# Altium schematic symbol library SamacSys.SchLib: 234 symbols (part 2 of 3)
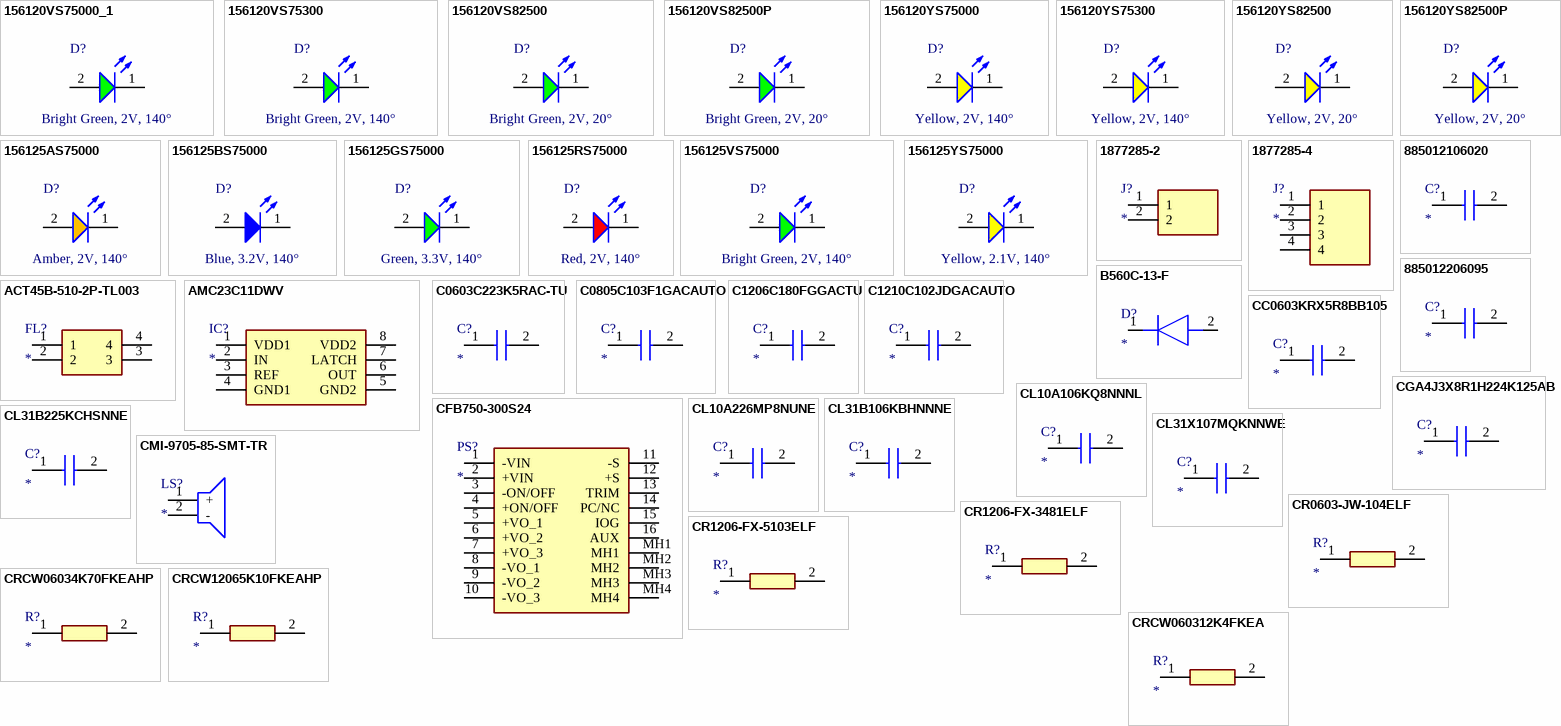
[diagram p6: symbols 156120VS75000_1 to CRCW060312K4FKEA]

## CL31X107MQKNNWE
designator C?
Capacitor; Manufacturer_Name: SAMSUNG; Manufacturer_Part_Number: CL31X107MQKNNWE; Datasheet Link: https://www.digikey.sg/en/products/detail/samsung-electro-mechanics/CL31X107MQKNNWE/25854287?srsltid=AfmBOoqYZ52GRQ9Xlh8bi0lGOe-KtDJ1wz9-WyaigKcCVSEueXc8l4on; Height: 1.9mm; Mouser Part Number: 187-CL31X107MQKNNWE; Mouser Price/Stock: https://www.mouser.co.uk/ProductDetail/Samsung-Electro-Mechanics/CL31X107MQKNNWE?qs=Jm2GQyTW%2FbjTv%252BH%2F%252BndEuA%3D%3D
footprint CAPC3216X190N
pins: 1, 2

## CMI-9705-85-SMT-TR
designator LS?
Loudspeaker or Buzzer; Manufacturer_Name: Same Sky; Manufacturer_Part_Number: CMI-9705-85-SMT-TR; Datasheet Link: https://www.sameskydevices.com/product/resource/CMI-9705-85-SMT-TR.pdf; Height: 5.5mm; Mouser Part Number: 490-CMI-9705-85SMTTR; Mouser Price/Stock: https://www.mouser.co.uk/ProductDetail/CUI-Devices/CMI-9705-85-SMT-TR?qs=P1JMDcb91o4Wun0lW9vptg%3D%3D; Arrow Part Number: CMI-9705-85-SMT-TR; Arrow Price/Stock: https://www.arrow.com/en/products/cmi-9705-85-smt-tr/cui-devices?region=nac
footprint CMI970585SMTTR
pins: 1 +, 2 -

## CR0603-JW-104ELF
designator R?
Resistor; Manufacturer_Name: Bourns; Manufacturer_Part_Number: CR0603-JW-104ELF; Datasheet Link: https://www.bourns.com/pdfs/chpreztr.pdf; Height: 0.55mm; Mouser Part Number: 652-CR0603-JW-104ELF; Mouser Price/Stock: https://www.mouser.co.uk/ProductDetail/Bourns/CR0603-JW-104ELF?qs=wOX%252BDVkMoZSK2gq9cFrtRg%3D%3D; Arrow Part Number: CR0603-JW-104ELF; Arrow Price/Stock: https://www.arrow.com/en/products/cr0603-jw-104elf/bourns?region=nac
footprint RESC1608X55N
pins: 1, 2

## CR1206-FX-3481ELF
designator R?
Resistor; Manufacturer_Name: Bourns; Manufacturer_Part_Number: CR1206-FX-3481ELF; Datasheet Link: https://nl.mouser.com/datasheet/2/54/cr-1858361.pdf; Height: 0.75mm; Mouser Part Number: 652-CR1206FX-3481ELF; Mouser Price/Stock: https://www.mouser.co.uk/ProductDetail/Bourns/CR1206-FX-3481ELF?qs=raSpJxvwqHE9%252BFSb7FiTAQ%3D%3D
footprint RESC3216X75N
pins: 1, 2

## CR1206-FX-5103ELF
designator R?
Resistor; Manufacturer_Name: Bourns; Manufacturer_Part_Number: CR1206-FX-5103ELF; Datasheet Link: http://componentsearchengine.com/Datasheets/1/CR1206-FX-5103ELF.pdf; Height: 0.75mm; Mouser Part Number: 652-CR1206FX-5103ELF; Mouser Price/Stock: https://www.mouser.co.uk/ProductDetail/Bourns/CR1206-FX-5103ELF?qs=O4EQhShwvrpqwloF6Ll%2FVg%3D%3D; Arrow Part Number: CR1206-FX-5103ELF; Arrow Price/Stock: https://www.arrow.com/en/products/cr1206-fx-5103elf/bourns?region=europe
footprint RESC3216X75N
pins: 1, 2

## CRCW06034K70FKEAHP
designator R?
Resistor; Manufacturer_Name: Vishay; Manufacturer_Part_Number: CRCW06034K70FKEAHP; Datasheet Link: http://www.farnell.com/datasheets/1885357.pdf; Height: 0.5mm; Mouser Part Number: 71-CRCW06034K70FKEAH; Mouser Price/Stock: https://www.mouser.co.uk/ProductDetail/Vishay-Dale/CRCW06034K70FKEAHP?qs=k2%2FDWSARqgF9tclCHvhGkQ%3D%3D; Arrow Part Number: CRCW06034K70FKEAHP; Arrow Price/Stock: https://www.arrow.com/en/products/crcw06034k70fkeahp/vishay?utm_currency=USD&region=nac
footprint RESC1608X50N
pins: 1, 2

## CRCW12065K10FKEAHP
designator R?
Resistor; Manufacturer_Name: Vishay; Manufacturer_Part_Number: CRCW12065K10FKEAHP; Datasheet Link: http://componentsearchengine.com/Datasheets/1/CRCW12065K10FKEAHP.pdf; Height: 0.65mm; Mouser Part Number: 71-CRCW12065K10FKEAH; Mouser Price/Stock: https://www.mouser.co.uk/ProductDetail/Vishay-Dale/CRCW12065K10FKEAHP?qs=YmE2lSBYOPkBMGQxuoTowQ%3D%3D; Arrow Part Number: CRCW12065K10FKEAHP; Arrow Price/Stock: https://www.arrow.com/en/products/crcw12065k10fkeahp/vishay?region=nac
footprint RESC3116X65N
pins: 1, 2

## CRCW060312K4FKEA
designator R?
Resistor; Manufacturer_Name: Vishay; Manufacturer_Part_Number: CRCW060312K4FKEA; Datasheet Link: http://www.vishay.com/docs/20035/dcrcwe3.pdf; Height: 0.5mm; Mouser Part Number: 71-CRCW0603-12.4K-E3; Mouser Price/Stock: https://www.mouser.co.uk/ProductDetail/Vishay-Dale/CRCW060312K4FKEA?qs=8tsW7z%2Fc78of4VB3wUPkkg%3D%3D; Arrow Part Number: CRCW060312K4FKEA; Arrow Price/Stock: https://www.arrow.com/en/products/crcw060312k4fkea/vishay?utm_currency=USD&region=nac
footprint RESC1608X50N
pins: 1, 2

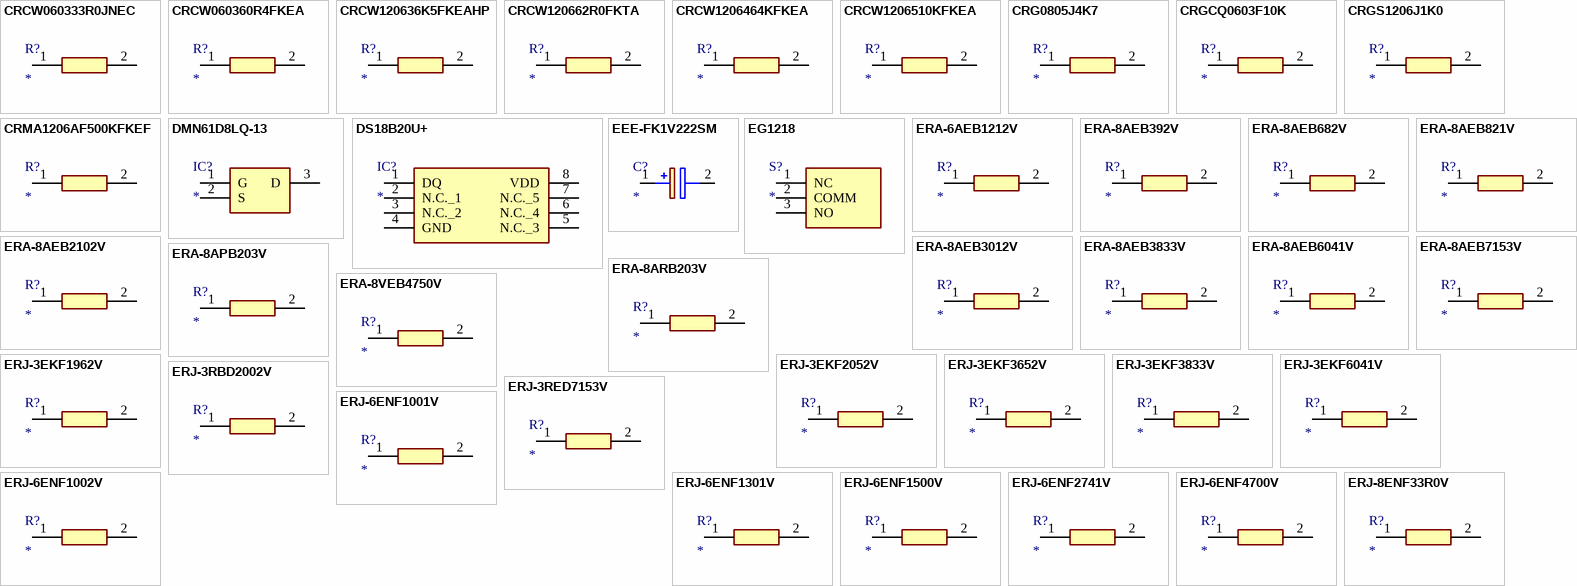
[diagram p2: symbols CRCW060333R0JNEC to ERJ-8ENF33R0V]

## CRCW060333R0JNEC
designator R?
Resistor; Manufacturer_Name: Vishay; Manufacturer_Part_Number: CRCW060333R0JNEC; Datasheet Link: http://www.vishay.com/docs/20035/dcrcwe3.pdf; Height: 0.5mm; Mouser Part Number: 71-CRCW060333R0JNEC; Mouser Price/Stock: https://www.mouser.co.uk/ProductDetail/Vishay-Dale/CRCW060333R0JNEC?qs=ZO1m%252BzWAUg2kwAG1IfiiMA%3D%3D; Arrow Part Number: CRCW060333R0JNEC; Arrow Price/Stock: https://www.arrow.com/en/products/crcw060333r0jnec/vishay?region=nac
footprint RESC1608X50N
pins: 1, 2

## CRCW060360R4FKEA
designator R?
Resistor; Manufacturer_Name: Vishay; Manufacturer_Part_Number: CRCW060360R4FKEA; Datasheet Link: http://www.vishay.com/docs/20035/dcrcwe3.pdf; Height: 0.5mm; Mouser Part Number: 71-CRCW0603-60.4-E3; Mouser Price/Stock: https://www.mouser.co.uk/ProductDetail/Vishay-Dale/CRCW060360R4FKEA?qs=6fyMJ9%2FiJ9KMVX8MBWVfDg%3D%3D; Arrow Part Number: CRCW060360R4FKEA; Arrow Price/Stock: https://www.arrow.com/en/products/crcw060360r4fkea/vishay
footprint RESC1608X50N
pins: 1, 2

## CRCW120636K5FKEAHP
designator R?
Resistor; Manufacturer_Name: Vishay; Manufacturer_Part_Number: CRCW120636K5FKEAHP; Height: 0.65mm; Mouser Part Number: 71-CRCW120636K5FKEAH; Mouser Price/Stock: https://www.mouser.co.uk/ProductDetail/Vishay-Dale/CRCW120636K5FKEAHP?qs=VAB4DzKv5wUp%2FbasZHay7w%3D%3D; Arrow Part Number: CRCW120636K5FKEAHP; Arrow Price/Stock: https://www.arrow.com/en/products/crcw120636k5fkeahp/vishay?region=nac
footprint RESC3116X65N
pins: 1, 2

## CRCW120662R0FKTA
designator R?
Resistor; Manufacturer_Name: Vishay; Manufacturer_Part_Number: CRCW120662R0FKTA; Height: 0.6mm; Mouser Part Number: 71-CRCW1206-62; Mouser Price/Stock: https://www.mouser.co.uk/ProductDetail/Vishay-Dale/CRCW120662R0FKTA?qs=ZNjI1vpoWDOW7%2FSNU3Zcgg%3D%3D
footprint RESC3216X60N
pins: 1, 2

## CRCW1206464KFKEA
designator R?
Resistor; Manufacturer_Name: Vishay; Manufacturer_Part_Number: CRCW1206464KFKEA; Datasheet Link: http://componentsearchengine.com/Datasheets/2/CRCW1206464KFKEA.pdf; Height: 0.6mm; Mouser Part Number: 71-CRCW1206-464K-E3; Mouser Price/Stock: https://www.mouser.co.uk/ProductDetail/Vishay-Dale/CRCW1206464KFKEA?qs=9sFvXT%252Bien0sktzQDV2mCw%3D%3D
footprint RESC3216X60N
pins: 1, 2

## CRCW1206510KFKEA
designator R?
Resistor; Manufacturer_Name: Vishay; Manufacturer_Part_Number: CRCW1206510KFKEA; Datasheet Link: http://www.vishay.com/docs/20035/dcrcwe3.pdf; Height: 0.6mm; Mouser Part Number: 71-CRCW1206-510K-E3; Mouser Price/Stock: https://www.mouser.co.uk/ProductDetail/Vishay-Dale/CRCW1206510KFKEA?qs=%2FAtLfjUBFoUdDh4J6snHXg%3D%3D
footprint RESC3216X60N
pins: 1, 2

## CRG0805J4K7
designator R?
Resistor; Manufacturer_Name: TE Connectivity; Manufacturer_Part_Number: CRG0805J4K7; Datasheet Link: https://www.te.com/commerce/DocumentDelivery/DDEController?Action=srchrtrv&DocNm=1773204&DocType=Data%20Sheet&DocLang=English&PartCntxt=1623378-1&DocFormat=pdf; Height: 0.65mm; Mouser Part Number: 279-CRG0805J4K7; Mouser Price/Stock: https://www.mouser.co.uk/ProductDetail/TE-Connectivity-Holsworthy/CRG0805J4K7?qs=8G8kQhBkhGgMmCk94lgNPw%3D%3D; Arrow Part Number: CRG0805J4K7; Arrow Price/Stock: https://www.arrow.com/en/products/crg0805j4k7/te-connectivity
footprint RESC2012X65N
pins: 1, 2

## CRGCQ0603F10K
designator R?
Resistor; Manufacturer_Name: TE Connectivity; Manufacturer_Part_Number: CRGCQ0603F10K; Datasheet Link: https://www.te.com/commerce/DocumentDelivery/DDEController?Action=showdoc&DocId=Data+Sheet%7F1773204-3%7F1%7Fpdf%7FEnglish%7FENG_DS_1773204-3_1.pdf%7F5-2176339-2; Height: 0.55mm; Mouser Part Number: 279-CRGCQ0603F10K; Mouser Price/Stock: https://www.mouser.co.uk/ProductDetail/TE-Connectivity-Holsworthy/CRGCQ0603F10K?qs=wUXugUrL1qxhM765MzQWJg%3D%3D; Arrow Part Number: CRGCQ0603F10K; Arrow Price/Stock: https://www.arrow.com/en/products/crgcq0603f10k/te-connectivity?region=nac
footprint RESC1608X55N
pins: 1, 2

## CRGS1206J1K0
designator R?
Resistor; Manufacturer_Name: TE Connectivity; Manufacturer_Part_Number: CRGS1206J1K0; Datasheet Link: https://www.te.com/commerce/DocumentDelivery/DDEController?Action=srchrtrv&DocNm=9-1773463-8&DocType=Data%20Sheet&DocLang=English&PartCntxt=3-2176245-7&DocFormat=pdf; Height: 0.65mm; Mouser Part Number: 279-CRGS1206J1K0; Mouser Price/Stock: https://www.mouser.com/Search/Refine.aspx?Keyword=279-CRGS1206J1K0
footprint RESC3116X65N
pins: 1, 2

## CRMA1206AF500KFKEF
designator R?
Resistor; Manufacturer_Name: Vishay; Manufacturer_Part_Number: CRMA1206AF500KFKEF; Datasheet Link: https://www.vishay.com/docs/68043/crma.pdf; Height: 0.74mm; Mouser Part Number: 71-CRMA1206AF500KFKF; Mouser Price/Stock: https://www.mouser.co.uk/ProductDetail/Vishay-Techno/CRMA1206AF500KFKEF?qs=1mbolxNpo8cDdncTsqghaQ%3D%3D; Arrow Part Number: CRMA1206AF500KFKEF; Arrow Price/Stock: https://www.arrow.com/en/products/crma1206af500kfkef/vishay?region=nac
footprint RESC3216X74N
pins: 1, 2

## DMN61D8LQ-13
designator IC?
Integrated Circuit; Manufacturer_Name: Diodes Incorporated; Manufacturer_Part_Number: DMN61D8LQ-13; Datasheet Link: https://www.diodes.com//assets/Datasheets/DMN61D8LQ.pdf; Height: 1.1mm; Mouser Part Number: 621-DMN61D8LQ-13; Mouser Price/Stock: https://www.mouser.co.uk/ProductDetail/Diodes-Incorporated/DMN61D8LQ-13?qs=DBvH5xl4UymJgoulTjiNCg%3D%3D; Arrow Part Number: DMN61D8LQ-13; Arrow Price/Stock: https://www.arrow.com/en/products/dmn61d8lq-13/diodes-incorporated?utm_currency=USD&region=nac
footprint SOT96P240X110-3N
pins: 1 G, 2 S, 3 D

## DS18B20U+
designator IC?
Integrated Circuit; Manufacturer_Name: Analog Devices; Manufacturer_Part_Number: DS18B20U+; Datasheet Link: https://datasheets.maximintegrated.com/en/ds/DS18B20.pdf; Height: 1.1mm; Mouser Part Number: 700-DS18B20U; Mouser Price/Stock: https://www.mouser.co.uk/ProductDetail/Analog-Devices-Maxim-Integrated/DS18B20U%2b?qs=7H2Jq%252ByxpJLxAEcPXZtrFQ%3D%3D; Arrow Part Number: DS18B20U+; Arrow Price/Stock: https://www.arrow.com/en/products/ds18b20u/analog-devices?utm_currency=USD&region=nac
footprint SOP65P490X110-8N
pins: 1 DQ, 2 N.C._1, 3 N.C._2, 4 GND, 5 N.C._3, 6 N.C._4, 7 N.C._5, 8 VDD

## EEE-FK1V222SM
designator C?
Capacitor Polarised; Manufacturer_Name: Panasonic; Manufacturer_Part_Number: EEE-FK1V222SM; Datasheet Link: http://industrial.panasonic.com/cdbs/www-data/pdf/RDE0000/ABA0000C1247.pdf; Height: 17mm; Mouser Part Number: 667-EEE-FK1V222SM; Mouser Price/Stock: https://www.mouser.co.uk/ProductDetail/Panasonic/EEE-FK1V222SM?qs=BZBei1rCqCDR%252Bq3bCD9AAQ%3D%3D; Arrow Part Number: EEE-FK1V222SM; Arrow Price/Stock: https://www.arrow.com/en/products/eee-fk1v222sm/panasonic?region=nac
footprint EEEFK0J103SM
pins: 1 +, 2 -

## EG1218
designator S?
Switch; Manufacturer_Name: E-Switch; Manufacturer_Part_Number: EG1218; Datasheet Link: https://configured-product-images.s3.amazonaws.com/2D/specs/EG1218.pdf; Height: 7.4mm; Mouser Part Number: 612-EG1218; Mouser Price/Stock: https://www.mouser.co.uk/ProductDetail/E-Switch/EG1218?qs=xDsBkp9LkocT0c8K%252B5e%2FgA%3D%3D
footprint EG1218
pins: 1 NC, 2 COMM, 3 NO

## ERA-6AEB1212V
designator R?
Resistor; Manufacturer_Name: Panasonic; Manufacturer_Part_Number: ERA-6AEB1212V; Datasheet Link: https://industrial.panasonic.com/cdbs/www-data/pdf/RDM0000/AOA0000C307.pdf; Height: 0.6mm; Mouser Part Number: 667-ERA-6AEB1212V; Mouser Price/Stock: https://www.mouser.co.uk/ProductDetail/Panasonic/ERA-6AEB1212V?qs=DyUWGjl%252BcVvcV08sco2Dng%3D%3D
footprint ERA6AEB101V
pins: 1, 2

## ERA-8AEB392V
designator R?
Resistor; Manufacturer_Name: Panasonic; Manufacturer_Part_Number: ERA-8AEB392V; Datasheet Link: https://industrial.panasonic.com/cdbs/www-data/pdf/RDM0000/AOA0000C307.pdf; Height: 0.7mm; Mouser Part Number: 667-ERA-8AEB392V; Mouser Price/Stock: https://www.mouser.com/Search/Refine.aspx?Keyword=667-ERA-8AEB392V
footprint RESC3216X70N
pins: 1, 2

## ERA-8AEB682V
designator R?
Resistor; Manufacturer_Name: Panasonic; Manufacturer_Part_Number: ERA-8AEB682V; Datasheet Link: https://industrial.panasonic.com/cdbs/www-data/pdf/RDM0000/AOA0000C307.pdf; Height: 0.7mm; Mouser Part Number: 667-ERA-8AEB682V; Mouser Price/Stock: https://www.mouser.com/Search/Refine.aspx?Keyword=667-ERA-8AEB682V
footprint RESC3216X70N
pins: 1, 2

## ERA-8AEB821V
designator R?
Resistor; Manufacturer_Name: Panasonic; Manufacturer_Part_Number: ERA-8AEB821V; Datasheet Link: https://industrial.panasonic.com/cdbs/www-data/pdf/RDM0000/AOA0000C307.pdf; Height: 0.7mm; Mouser Part Number: 667-ERA-8AEB821V; Mouser Price/Stock: https://www.mouser.co.uk/ProductDetail/Panasonic/ERA-8AEB821V?qs=Ojoo2rCVP9QZBqbRJJi6EA%3D%3D; Arrow Part Number: ERA-8AEB821V; Arrow Price/Stock: https://www.arrow.com/en/products/era-8aeb821v/panasonic?region=nac
footprint RESC3216X70N
pins: 1, 2

## ERA-8AEB2102V
designator R?
Resistor; Manufacturer_Name: Panasonic; Manufacturer_Part_Number: ERA-8AEB2102V; Datasheet Link: https://industrial.panasonic.com/cdbs/www-data/pdf/RDM0000/AOA0000C307.pdf; Height: 0.7mm; Mouser Part Number: 667-ERA-8AEB2102V; Mouser Price/Stock: https://www.mouser.co.uk/ProductDetail/Panasonic/ERA-8AEB2102V?qs=MNPzkKEzRtSGOL2oFTGtSQ%3D%3D
footprint RESC3216X70N
pins: 1, 2

## ERA-8AEB3012V
designator R?
Resistor; Manufacturer_Name: Panasonic; Manufacturer_Part_Number: ERA-8AEB3012V; Datasheet Link: https://industrial.panasonic.com/cdbs/www-data/pdf/RDM0000/AOA0000C307.pdf; Height: 0.7mm; Mouser Part Number: 667-ERA-8AEB3012V; Mouser Price/Stock: https://www.mouser.co.uk/ProductDetail/Panasonic/ERA-8AEB3012V?qs=MNPzkKEzRtRrrEBjINaeEw%3D%3D; Arrow Part Number: ERA-8AEB3012V; Arrow Price/Stock: https://www.arrow.com/en/products/era-8aeb3012v/panasonic
footprint RESC3216X70N
pins: 1, 2

## ERA-8AEB3833V
designator R?
Resistor; Manufacturer_Name: Panasonic; Manufacturer_Part_Number: ERA-8AEB3833V; Datasheet Link: https://industrial.panasonic.com/cdbs/www-data/pdf/RDM0000/AOA0000C307.pdf; Height: 0.7mm
footprint RESC3216X70N
pins: 1, 2

## ERA-8AEB6041V
designator R?
Resistor; Manufacturer_Name: Panasonic; Manufacturer_Part_Number: ERA-8AEB6041V; Datasheet Link: https://industrial.panasonic.com/cdbs/www-data/pdf/RDM0000/AOA0000C307.pdf; Height: 0.7mm
footprint RESC3216X70N
pins: 1, 2

## ERA-8AEB7153V
designator R?
Resistor; Manufacturer_Name: Panasonic; Manufacturer_Part_Number: ERA-8AEB7153V; Datasheet Link: https://industrial.panasonic.com/cdbs/www-data/pdf/RDM0000/AOA0000C307.pdf; Height: 0.7mm; Mouser Part Number: 667-ERA-8AEB7153V; Mouser Price/Stock: https://www.mouser.co.uk/ProductDetail/Panasonic/ERA-8AEB7153V?qs=MNPzkKEzRtQwT%2F%2F5AstjZA%3D%3D; Arrow Part Number: ERA-8AEB7153V; Arrow Price/Stock: https://www.arrow.com/en/products/era-8aeb7153v/panasonic
footprint RESC3216X70N
pins: 1, 2

## ERA-8APB203V
designator R?
Resistor; Manufacturer_Name: Panasonic; Manufacturer_Part_Number: ERA-8APB203V; Datasheet Link: https://industrial.panasonic.com/cdbs/www-data/pdf/RDM0000/AOA0000C307.pdf; Height: 0.7mm; Mouser Part Number: 667-ERA-8APB203V; Mouser Price/Stock: https://www.mouser.co.uk/ProductDetail/Panasonic/ERA-8APB203V?qs=PgLP5AltfozIbJaoHBTq0Q%3D%3D
footprint RESC3216X70N
pins: 1, 2

## ERA-8ARB203V
designator R?
Resistor; Manufacturer_Name: Panasonic; Manufacturer_Part_Number: ERA-8ARB203V; Datasheet Link: https://industrial.panasonic.com/cdbs/www-data/pdf/RDM0000/AOA0000C307.pdf; Height: 0.7mm; Mouser Part Number: 667-ERA-8ARB203V; Mouser Price/Stock: https://www.mouser.co.uk/ProductDetail/Panasonic/ERA-8ARB203V?qs=6%252Bc%252B2ke79U6sTVaKLKhC4g%3D%3D
footprint RESC3216X70N
pins: 1, 2

## ERA-8VEB4750V
designator R?
Resistor; Manufacturer_Name: Panasonic; Manufacturer_Part_Number: ERA-8VEB4750V; Datasheet Link: https://industrial.panasonic.com/cdbs/www-data/pdf/RDM0000/RDM0000C331.pdf; Height: 0.65mm; Mouser Part Number: 667-ERA-8VEB4750V; Mouser Price/Stock: https://www.mouser.co.uk/ProductDetail/Panasonic/ERA-8VEB4750V?qs=By6Nw2ByBD36LBLC0KPpEw%3D%3D
footprint ERA8KEB1004V
pins: 1, 2

## ERJ-3EKF1962V
designator R?
Resistor; Manufacturer_Name: Panasonic; Manufacturer_Part_Number: ERJ-3EKF1962V; Datasheet Link: http://industrial.panasonic.com/cdbs/www-data/pdf/RDA0000/AOA0000C86.pdf; Height: 0.55mm; Mouser Part Number: 667-ERJ-3EKF1962V; Mouser Price/Stock: https://www.mouser.com/Search/Refine.aspx?Keyword=667-ERJ-3EKF1962V; Arrow Part Number: ERJ-3EKF1962V; Arrow Price/Stock: https://www.arrow.com/en/products/erj-3ekf1962v/panasonic
footprint RESC1608X55N
pins: 1, 2

## ERJ-3EKF2052V
designator R?
Resistor; Manufacturer_Name: Panasonic; Manufacturer_Part_Number: ERJ-3EKF2052V; Datasheet Link: http://industrial.panasonic.com/cdbs/www-data/pdf/RDA0000/AOA0000C86.pdf; Height: 0.55mm; Arrow Part Number: ERJ-3EKF2052V; Arrow Price/Stock: https://www.arrow.com/en/products/erj3ekf2052v/panasonic?region=nac
footprint RESC1608X55N
pins: 1, 2

## ERJ-3EKF3652V
designator R?
Resistor; Manufacturer_Name: Panasonic; Manufacturer_Part_Number: ERJ-3EKF3652V; Datasheet Link: http://industrial.panasonic.com/cdbs/www-data/pdf/RDA0000/AOA0000C86.pdf; Height: 0.55mm; Mouser Part Number: 667-ERJ-3EKF3652V; Mouser Price/Stock: https://www.mouser.co.uk/ProductDetail/Panasonic/ERJ-3EKF3652V?qs=MVjVSMjNRMrgC1BnfDObyw%3D%3D; Arrow Part Number: ERJ-3EKF3652V; Arrow Price/Stock: https://www.arrow.com/en/products/erj-3ekf3652v/panasonic?region=nac
footprint RESC1608X55N
pins: 1, 2

## ERJ-3EKF3833V
designator R?
Resistor; Manufacturer_Name: Panasonic; Manufacturer_Part_Number: ERJ-3EKF3833V; Datasheet Link: http://industrial.panasonic.com/cdbs/www-data/pdf/RDA0000/AOA0000C86.pdf; Height: 0.55mm; Mouser Part Number: 667-ERJ-3EKF3833V; Mouser Price/Stock: https://www.mouser.com/Search/Refine.aspx?Keyword=667-ERJ-3EKF3833V; Arrow Part Number: ERJ-3EKF3833V; Arrow Price/Stock: https://www.arrow.com/en/products/erj-3ekf3833v/panasonic
footprint RESC1608X55N
pins: 1, 2

## ERJ-3EKF6041V
designator R?
Resistor; Manufacturer_Name: Panasonic; Manufacturer_Part_Number: ERJ-3EKF6041V; Datasheet Link: http://industrial.panasonic.com/cdbs/www-data/pdf/RDA0000/AOA0000C86.pdf; Height: 0.55mm; Mouser Part Number: 667-ERJ-3EKF6041V; Mouser Price/Stock: https://www.mouser.co.uk/ProductDetail/Panasonic/ERJ-3EKF6041V?qs=iBwFsHVUAOeUhyGwvVJXlA%3D%3D; Arrow Part Number: ERJ-3EKF6041V; Arrow Price/Stock: https://www.arrow.com/en/products/erj-3ekf6041v/panasonic?region=nac
footprint RESC1608X55N
pins: 1, 2

## ERJ-3RBD2002V
designator R?
Resistor; Manufacturer_Name: Panasonic; Manufacturer_Part_Number: ERJ-3RBD2002V; Height: 0.55mm; Mouser Part Number: 667-ERJ-3RBD2002V; Mouser Price/Stock: https://www.mouser.co.uk/ProductDetail/Panasonic/ERJ-3RBD2002V?qs=18kBAoNi3c86dkVPS7b86Q%3D%3D; Arrow Part Number: ERJ-3RBD2002V; Arrow Price/Stock: https://www.arrow.com/en/products/erj-3rbd2002v/panasonic?region=nac
footprint RESC1608X55N
pins: 1, 2

## ERJ-3RED7153V
designator R?
Resistor; Manufacturer_Name: Panasonic; Manufacturer_Part_Number: ERJ-3RED7153V; Height: 0.55mm; Mouser Part Number: 667-ERJ-3RED7153V; Mouser Price/Stock: https://www.mouser.co.uk/ProductDetail/Panasonic/ERJ-3RED7153V?qs=KTDjhDDUMAkeRZjDK2%2FIGQ%3D%3D
footprint RESC1608X55N
pins: 1, 2

## ERJ-6ENF1001V
designator R?
Resistor; Manufacturer_Name: Panasonic; Manufacturer_Part_Number: ERJ-6ENF1001V; Datasheet Link: https://industrial.panasonic.com/cdbs/www-data/pdf/RDA0000/AOA0000C84.pdf; Height: 0.7mm; Mouser Part Number: 667-ERJ-6ENF1001V; Mouser Price/Stock: https://www.mouser.co.uk/ProductDetail/Panasonic/ERJ-6ENF1001V?qs=4WZYzuGhm5oUVX2rjuKY8w%3D%3D; Arrow Part Number: ERJ-6ENF1001V; Arrow Price/Stock: https://www.arrow.com/en/products/erj-6enf1001v/panasonic?utm_currency=USD&region=europe
footprint ERJ6ENF1000V
pins: 1, 2

## ERJ-6ENF1002V
designator R?
Resistor; Manufacturer_Name: Panasonic; Manufacturer_Part_Number: ERJ-6ENF1002V; Datasheet Link: https://industrial.panasonic.com/cdbs/www-data/pdf/RDA0000/AOA0000C84.pdf; Height: 0.7mm; Mouser Part Number: 667-ERJ-6ENF1002V; Mouser Price/Stock: https://www.mouser.co.uk/ProductDetail/Panasonic/ERJ-6ENF1002V?qs=4WZYzuGhm5pfKPfuMiCO5g%3D%3D; Arrow Part Number: ERJ-6ENF1002V; Arrow Price/Stock: https://www.arrow.com/en/products/erj-6enf1002v/panasonic?utm_currency=USD&region=europe
footprint ERJ6ENF1000V
pins: 1, 2

## ERJ-6ENF1301V
designator R?
Resistor; Manufacturer_Name: Panasonic; Manufacturer_Part_Number: ERJ-6ENF1301V; Datasheet Link: https://industrial.panasonic.com/cdbs/www-data/pdf/RDA0000/AOA0000C84.pdf; Height: 0.7mm; Mouser Part Number: 667-ERJ-6ENF1301V; Mouser Price/Stock: https://www.mouser.com/Search/Refine.aspx?Keyword=667-ERJ-6ENF1301V; Arrow Part Number: ERJ-6ENF1301V; Arrow Price/Stock: https://www.arrow.com/en/products/erj-6enf1301v/panasonic
footprint ERJ6ENF1000V
pins: 1, 2

## ERJ-6ENF1500V
designator R?
Resistor; Manufacturer_Name: Panasonic; Manufacturer_Part_Number: ERJ-6ENF1500V; Datasheet Link: https://industrial.panasonic.com/cdbs/www-data/pdf/RDA0000/AOA0000C84.pdf; Height: 0.7mm; Mouser Part Number: 667-ERJ-6ENF1500V; Mouser Price/Stock: https://www.mouser.co.uk/ProductDetail/Panasonic/ERJ-6ENF1500V?qs=JjxTDIFmKPSY5fkX23wDnA%3D%3D; Arrow Part Number: ERJ-6ENF1500V; Arrow Price/Stock: https://www.arrow.com/en/products/erj-6enf1500v/panasonic?region=nac
footprint ERJ6ENF1000V
pins: 1, 2

## ERJ-6ENF2741V
designator R?
Resistor; Manufacturer_Name: Panasonic; Manufacturer_Part_Number: ERJ-6ENF2741V; Datasheet Link: https://industrial.panasonic.com/cdbs/www-data/pdf/RDA0000/AOA0000C84.pdf; Height: 0.7mm; Mouser Part Number: 667-ERJ-6ENF2741V; Mouser Price/Stock: https://www.mouser.com/Search/Refine.aspx?Keyword=667-ERJ-6ENF2741V; Arrow Part Number: ERJ-6ENF2741V; Arrow Price/Stock: https://www.arrow.com/en/products/erj-6enf2741v/panasonic
footprint ERJ6ENF1000V
pins: 1, 2

## ERJ-6ENF4700V
designator R?
Resistor; Manufacturer_Name: Panasonic; Manufacturer_Part_Number: ERJ-6ENF4700V; Datasheet Link: https://industrial.panasonic.com/cdbs/www-data/pdf/RDA0000/AOA0000C84.pdf; Height: 0.7mm; Mouser Part Number: 667-ERJ-6ENF4700V; Mouser Price/Stock: https://www.mouser.co.uk/ProductDetail/Panasonic/ERJ-6ENF4700V?qs=haJlXwgIYR1%252BMvNjPRrlhw%3D%3D; Arrow Part Number: ERJ-6ENF4700V; Arrow Price/Stock: https://www.arrow.com/en/products/erj6enf4700v/panasonic?region=nac
footprint ERJ6ENF1000V
pins: 1, 2

## ERJ-8ENF33R0V
designator R?
Resistor; Manufacturer_Name: Panasonic; Manufacturer_Part_Number: ERJ-8ENF33R0V; Datasheet Link: https://industrial.panasonic.com/cdbs/www-data/pdf/RDA0000/AOA0000C86.pdf; Height: 0.7mm; Mouser Part Number: 667-ERJ-8ENF33R0V; Mouser Price/Stock: https://www.mouser.co.uk/ProductDetail/Panasonic/ERJ-8ENF33R0V?qs=8%252BG0TiN%2FgVpb1yH%2F8k6uQg%3D%3D
footprint ERJ8ENF1000V
pins: 1, 2

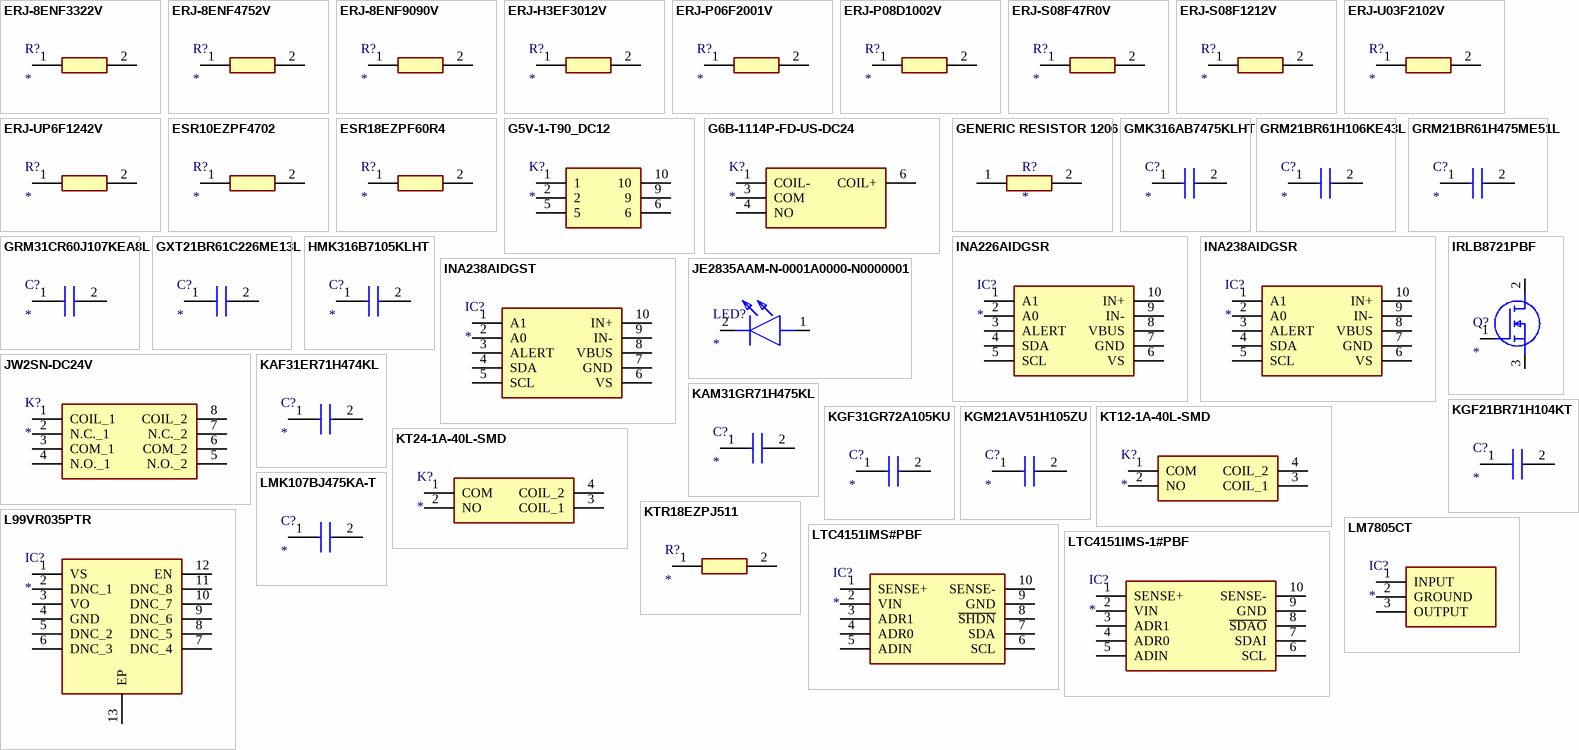
[diagram p3: symbols ERJ-8ENF3322V to LTC4151IMS-1#PBF]

## ERJ-8ENF3322V
designator R?
Resistor; Manufacturer_Name: Panasonic; Manufacturer_Part_Number: ERJ-8ENF3322V; Datasheet Link: https://industrial.panasonic.com/cdbs/www-data/pdf/RDA0000/AOA0000C86.pdf; Height: 0.7mm; Mouser Part Number: 667-ERJ-8ENF3322V; Mouser Price/Stock: https://www.mouser.co.uk/ProductDetail/Panasonic/ERJ-8ENF3322V?qs=8%252BG0TiN%2FgVoP4ztf7NoJ7g%3D%3D; Arrow Part Number: ERJ-8ENF3322V; Arrow Price/Stock: https://www.arrow.com/en/products/erj-8enf3322v/panasonic
footprint ERJ8ENF1000V
pins: 1, 2

## ERJ-8ENF4752V
designator R?
Resistor; Manufacturer_Name: Panasonic; Manufacturer_Part_Number: ERJ-8ENF4752V; Datasheet Link: https://industrial.panasonic.com/cdbs/www-data/pdf/RDA0000/AOA0000C86.pdf; Height: 0.7mm; Mouser Part Number: 667-ERJ-8ENF4752V; Mouser Price/Stock: https://www.mouser.com/Search/Refine.aspx?Keyword=667-ERJ-8ENF4752V; Arrow Part Number: ERJ-8ENF4752V; Arrow Price/Stock: https://www.arrow.com/en/products/erj-8enf4752v/panasonic
footprint ERJ8ENF1000V
pins: 1, 2

## ERJ-8ENF9090V
designator R?
Resistor; Manufacturer_Name: Panasonic; Manufacturer_Part_Number: ERJ-8ENF9090V; Datasheet Link: https://industrial.panasonic.com/cdbs/www-data/pdf/RDA0000/AOA0000C86.pdf; Height: 0.7mm; Mouser Part Number: 667-ERJ-8ENF9090V; Mouser Price/Stock: https://www.mouser.co.uk/ProductDetail/Panasonic/ERJ-8ENF9090V?qs=Ow%252BOiPmaljFp7qjHXHnn0Q%3D%3D
footprint ERJ8ENF1000V
pins: 1, 2

## ERJ-H3EF3012V
designator R?
Resistor; Manufacturer_Name: Panasonic; Manufacturer_Part_Number: ERJ-H3EF3012V; Datasheet Link: http://industrial.panasonic.com/cdbs/www-data/pdf/RDQ0000/ast-ind-151033.pdf
footprint ERJH3
pins: 1, 2

## ERJ-P06F2001V
designator R?
Resistor; Manufacturer_Name: Panasonic; Manufacturer_Part_Number: ERJ-P06F2001V; Datasheet Link: http://industrial.panasonic.com/cdbs/www-data/pdf/RDA0000/AOA0000C102.pdf; Height: 0.7mm; Mouser Part Number: 667-ERJ-P06F2001V; Mouser Price/Stock: https://www.mouser.co.uk/ProductDetail/Panasonic/ERJ-P06F2001V?qs=iIVTEDlrHA33HmjCRTb3vw%3D%3D; Arrow Part Number: ERJ-P06F2001V; Arrow Price/Stock: https://www.arrow.com/en/products/erjp06f2001v/panasonic?region=nac
footprint ERJP06D1000V
pins: 1, 2

## ERJ-P08D1002V
designator R?
Resistor; Manufacturer_Name: Panasonic; Manufacturer_Part_Number: ERJ-P08D1002V; Datasheet Link: http://industrial.panasonic.com/cdbs/www-data/pdf/RDO0000/AOA0000C331.pdf; Height: 0.7mm; Mouser Part Number: 667-ERJ-P08D1002V; Mouser Price/Stock: https://www.mouser.co.uk/ProductDetail/Panasonic/ERJ-P08D1002V?qs=iIVTEDlrHA2EA%252BOcRk4tPQ%3D%3D; Arrow Part Number: ERJ-P08D1002V; Arrow Price/Stock: https://www.arrow.com/en/products/erj-p08d1002v/panasonic
footprint ERJP08_(1206)
pins: 1, 2

## ERJ-S08F47R0V
designator R?
Resistor; Manufacturer_Name: Panasonic; Manufacturer_Part_Number: ERJ-S08F47R0V; Datasheet Link: http://industrial.panasonic.com/cdbs/www-data/pdf/RDP0000/AOA0000C334.pdf; Height: 0.7mm
footprint ERJS08_U08_(1206)
pins: 1, 2

## ERJ-S08F1212V
designator R?
Resistor; Manufacturer_Name: Panasonic; Manufacturer_Part_Number: ERJ-S08F1212V; Datasheet Link: http://industrial.panasonic.com/cdbs/www-data/pdf/RDP0000/AOA0000C334.pdf; Height: 0.7mm; Mouser Part Number: 667-ERJ-S08F1212V; Mouser Price/Stock: https://www.mouser.co.uk/ProductDetail/Panasonic/ERJ-S08F1212V?qs=Zyl8A9hlmJoa%2FmRL4TNL9g%3D%3D
footprint ERJS08_U08_(1206)
pins: 1, 2

## ERJ-U03F2102V
designator R?
Resistor; Manufacturer_Name: Panasonic; Manufacturer_Part_Number: ERJ-U03F2102V; Datasheet Link: http://industrial.panasonic.com/cdbs/www-data/pdf/RDP0000/AOA0000C334.pdf; Height: 0.55mm
footprint ERJS03J155V
pins: 1, 2

## ERJ-UP6F1242V
designator R?
Resistor; Manufacturer_Name: Panasonic; Manufacturer_Part_Number: ERJ-UP6F1242V; Datasheet Link: https://industrial.panasonic.com/cdbs/www-data/pdf/RDP0000/AOA0000C337.pdf; Height: 0.7mm; Mouser Part Number: 667-ERJ-UP6F1242V; Mouser Price/Stock: https://www.mouser.co.uk/ProductDetail/Panasonic/ERJ-UP6F1242V?qs=dbcCsuKDzFVg0bvXpJGfbQ%3D%3D
footprint ERJUP6
pins: 1, 2

## ESR10EZPF4702
designator R?
Resistor; Manufacturer_Name: ROHM Semiconductor; Manufacturer_Part_Number: ESR10EZPF4702; Datasheet Link: http://uk.rs-online.com/web/p/products/1674355; Height: 0.65mm; Mouser Part Number: 755-ESR10EZPF4702; Mouser Price/Stock: https://www.mouser.com/Search/Refine.aspx?Keyword=755-ESR10EZPF4702
footprint RESC2012X65N
pins: 1, 2

## ESR18EZPF60R4
designator R?
Resistor; Manufacturer_Name: ROHM Semiconductor; Manufacturer_Part_Number: ESR18EZPF60R4; Datasheet Link: https://datasheet.datasheetarchive.com/originals/dk/DKDS-18/356400.pdf; Height: 0.65mm
footprint RESC3216X65N
pins: 1, 2

## G5V-1-T90_DC12
designator K?
Relay or Contactor; Manufacturer_Name: OMRON Electronics; Manufacturer_Part_Number: G5V-1-T90 DC12; Datasheet Link: http://www.omron.com/ecb/products/pdf/en-g5v_1.pdf; Height: 10mm; Mouser Part Number: 653-G5V-1-T90-DC12; Mouser Price/Stock: https://www.mouser.co.uk/ProductDetail/Omron-Electronics/G5V-1-T90-DC12?qs=KYKjgosl6jU%2FC3JiTUBd7A%3D%3D; Arrow Part Number: G5V-1-T90 DC12; Arrow Price/Stock: https://www.arrow.com/en/products/g5v-1-t90dc12/omron?region=nac
footprint G5V1DC24
pins: 1, 2, 5, 6, 9, 10

## G6B-1114P-FD-US-DC24
designator K?
Relay or Contactor; Manufacturer_Name: OMRON Electronics; Manufacturer_Part_Number: G6B-1114P-FD-US-DC24; Datasheet Link: https://omronfs.omron.com/en_US/ecb/products/pdf/en-g6b.pdf; Height: 10mm; Mouser Part Number: 653-G6B1114PFDUSDC24; Mouser Price/Stock: https://www.mouser.co.uk/ProductDetail/Omron-Electronics/G6B-1114P-FD-US-DC24?qs=UirnxRGj1IfB1jNtYk7Y9Q%3D%3D; Arrow Part Number: G6B-1114P-FD-US-DC24; Arrow Price/Stock: https://www.arrow.com/en/products/g6b-1114p-fd-us-dc24/omron?utm_currency=USD&region=nac
footprint G6B1114PFDUSDC24
pins: 1 COIL-, 3 COM, 4 NO, 6 COIL+

## GENERIC RESISTOR 1206
designator R?
footprint GENERIC 1206
pins: 1, 2

## GMK316AB7475KLHT
designator C?
Capacitor; Manufacturer_Name: TAIYO YUDEN; Manufacturer_Part_Number: GMK316AB7475KLHT; Datasheet Link: https://ds.yuden.co.jp/TYCOMPAS/ap/specSheet?pn=MMASG31LAB7475KTNA01; Height: 1.8mm; Mouser Part Number: 963-GMK316AB7475KLHT; Mouser Price/Stock: https://www.mouser.co.uk/ProductDetail/TAIYO-YUDEN/GMK316AB7475KLHT?qs=CNQs48zzdnoeKLJ9%2F6WNWQ%3D%3D; Arrow Part Number: GMK316AB7475KLHT; Arrow Price/Stock: https://www.arrow.com/en/products/gmk316ab7475klht/taiyo-yuden?utm_currency=USD&region=nac
footprint CAPC3216X180N
pins: 1, 2

## GRM21BR61H106KE43L
designator C?
Capacitor; Manufacturer_Name: Murata Electronics; Manufacturer_Part_Number: GRM21BR61H106KE43L; Datasheet Link: https://search.murata.co.jp/Ceramy/image/img/A01X/G101/ENG/GRM21BR61H106KE43-01A.pdf; Height: 1.45mm; Mouser Part Number: 81-GRM21BR61H106KE3L; Mouser Price/Stock: https://www.mouser.co.uk/ProductDetail/Murata-Electronics/GRM21BR61H106KE43L?qs=lYGu3FyN48cBZlIduWKclg%3D%3D; Arrow Part Number: GRM21BR61H106KE43L; Arrow Price/Stock: https://www.arrow.com/en/products/grm21br61h106ke43l/murata-manufacturing?utm_currency=USD&region=europe
footprint GRM21BR60J226ME39L
pins: 1, 2

## GRM21BR61H475ME51L
designator C?
Capacitor; Manufacturer_Name: Murata Electronics; Manufacturer_Part_Number: GRM21BR61H475ME51L; Datasheet Link: https://search.murata.co.jp/Ceramy/image/img/A01X/G101/ENG/GRM21BR61H475ME51-01A.pdf; Height: 1.45mm; Mouser Part Number: 81-GRM21BR61H475M51L; Mouser Price/Stock: https://www.mouser.co.uk/ProductDetail/Murata-Electronics/GRM21BR61H475ME51L?qs=eeBpzGFlv%252B%2Fg0wAeHy0eJw%3D%3D; Arrow Part Number: GRM21BR61H475ME51L; Arrow Price/Stock: https://www.arrow.com/en/products/grm21br61h475me51l/murata-manufacturing?region=nac
footprint CAPC2012X145N
pins: 1, 2

## GRM31CR60J107KEA8L
designator C?
Capacitor; Manufacturer_Name: Murata Electronics; Manufacturer_Part_Number: GRM31CR60J107KEA8L; Datasheet Link: https://search.murata.co.jp/Ceramy/image/img/A01X/G101/ENG/GRM31CR60J107KEA8-01A.pdf; Height: 1.25mm; Mouser Part Number: 81-GRM31CR60J107KE8L; Mouser Price/Stock: https://www.mouser.co.uk/ProductDetail/Murata-Electronics/GRM31CR60J107KEA8L?qs=pUKx8fyJudDzdyEEakAKPA%3D%3D
footprint GRM31x
pins: 1, 2

## GXT21BR61C226ME13L
designator C?
Capacitor; Manufacturer_Name: Murata Electronics; Manufacturer_Part_Number: GXT21BR61C226ME13L; Datasheet Link: https://www.murata.com/en-global/products/productdetail?partno=GXT21BR61C226ME13%23; Height: 1.45mm
footprint CAPC2012X145N
pins: 1, 2

## HMK316B7105KLHT
designator C?
Capacitor; Manufacturer_Name: TAIYO YUDEN; Manufacturer_Part_Number: HMK316B7105KLHT; Datasheet Link: https://mouser.componentsearchengine.com/Datasheets/1/HMK316B7105KLHT.pdf; Height: 1.8mm; Mouser Part Number: 963-HMK316B7105KLHT; Mouser Price/Stock: https://www.mouser.co.uk/ProductDetail/TAIYO-YUDEN/HMK316B7105KLHT?qs=sz8xDBnIhcFmvpGfTAF0nQ%3D%3D; Arrow Part Number: HMK316B7105KLHT; Arrow Price/Stock: null?utm_currency=USD&region=nac
footprint CAPC3216X180N
pins: 1, 2

## INA226AIDGSR
designator IC?
Integrated Circuit; Manufacturer_Name: Texas Instruments; Manufacturer_Part_Number: INA226AIDGSR; Datasheet Link: https://componentsearchengine.com/Datasheets/1/INA226AIDGSR.pdf; Height: 1.1mm; Mouser Part Number: 595-INA226AIDGSR; Mouser Price/Stock: https://www.mouser.co.uk/ProductDetail/Texas-Instruments/INA226AIDGSR?qs=tQG3bEuiOZD4quG3egR36g%3D%3D; Arrow Part Number: INA226AIDGSR; Arrow Price/Stock: https://www.arrow.com/en/products/ina226aidgsr/texas-instruments?region=nac
footprint SOP50P490X110-10N
pins: 1 A1, 2 A0, 3 ALERT, 4 SDA, 5 SCL, 6 VS, 7 GND, 8 VBUS, 9 IN-, 10 IN+

## INA238AIDGSR
designator IC?
Integrated Circuit; Manufacturer_Name: Texas Instruments; Manufacturer_Part_Number: INA238AIDGSR; Datasheet Link: https://www.ti.com/lit/ds/symlink/ina238.pdf?ts=1623483707955&ref_url=https%253A%252F%252Fwww.ti.com%252Fstore%252Fti%252Fen%252Fp%252Fproduct%252F%253Fp%253DINA238AIDGSR; Height: 1.1mm; Mouser Part Number: 595-INA238AIDGSR; Mouser Price/Stock: https://www.mouser.co.uk/ProductDetail/Texas-Instruments/INA238AIDGSR?qs=DRkmTr78QAQpWvQMAkqDfQ%3D%3D; Arrow Part Number: INA238AIDGSR; Arrow Price/Stock: https://www.arrow.com/en/products/ina238aidgsr/texas-instruments?utm_currency=USD&region=nac
footprint SOP50P490X110-10N
pins: 1 A1, 2 A0, 3 ALERT, 4 SDA, 5 SCL, 6 VS, 7 GND, 8 VBUS, 9 IN-, 10 IN+

## INA238AIDGST
designator IC?
Integrated Circuit; Manufacturer_Name: Texas Instruments; Manufacturer_Part_Number: INA238AIDGST; Datasheet Link: https://www.ti.com/lit/ds/symlink/ina238.pdf?ts=1619924491111&ref_url=https%253A%252F%252Fwww.ti.com%252Fproduct%252FINA238%253FHQS%253DTI-null-null-octopart-df-pf-null-wwe; Height: 1.1mm; Mouser Part Number: 595-INA238AIDGST; Mouser Price/Stock: https://www.mouser.co.uk/ProductDetail/Texas-Instruments/INA238AIDGST?qs=DRkmTr78QATCCZN2%2FktswA%3D%3D; Arrow Part Number: INA238AIDGST; Arrow Price/Stock: https://www.arrow.com/en/products/ina238aidgst/texas-instruments?region=nac
footprint SOP50P490X110-10N
pins: 1 A1, 2 A0, 3 ALERT, 4 SDA, 5 SCL, 6 VS, 7 GND, 8 VBUS, 9 IN-, 10 IN+

## IRLB8721PBF
designator Q?
MOSFET (N-Channel); Manufacturer_Name: Infineon; Manufacturer_Part_Number: IRLB8721PBF; Datasheet Link: http://uk.rs-online.com/web/p/products/7259322; Height: 4.83mm; Mouser Part Number: 942-IRLB8721PBF; Mouser Price/Stock: https://www.mouser.co.uk/ProductDetail/Infineon-Technologies/IRLB8721PBF?qs=9%252BKlkBgLFf0T58WYx%2FAl5A%3D%3D; Arrow Part Number: IRLB8721PBF; Arrow Price/Stock: https://www.arrow.com/en/products/irlb8721pbf/infineon-technologies-ag?utm_currency=USD&region=europe
footprint TO254P483X1016X1994-3P
pins: 1 G, 2 D, 3 S

## JE2835AAM-N-0001A0000-N0000001
designator LED?
LED; Manufacturer_Name: Wolfspeed; Manufacturer_Part_Number: JE2835AAM-N-0001A0000-N0000001; Datasheet Link: https://downloads.cree-led.com/files/ds/j/JSeries-2835-Color.pdf; Height: 0.8mm; Mouser Part Number: 941-JE2835AAMN01AN; Mouser Price/Stock: https://www.mouser.co.uk/ProductDetail/Cree-LED/JE2835AAM-N-0001A0000-N0000001?qs=tlsG%2FOw5FFjtZMBizMH2qA%3D%3D
footprint JE2835AAMN0001A0000N0000001
pins: 1 A, 2 K

## JW2SN-DC24V
designator K?
Relay or Contactor; Manufacturer_Name: Panasonic; Manufacturer_Part_Number: JW2SN-DC24V; Datasheet Link: https://industry.panasonic.com/ac/cdn/e/control/relay/power/catalog/mech_eng_jw.pdf; Height: 20mm; Mouser Part Number: 769-JW2SN-DC24V; Mouser Price/Stock: https://www.mouser.co.uk/ProductDetail/Panasonic-Industrial-Devices/JW2SN-DC24V?qs=HLLy2pIPwuu05BG9NIWxwg%3D%3D; Arrow Part Number: JW2SN-DC24V; Arrow Price/Stock: https://www.arrow.com/en/products/jw2sn-dc24v/panasonic?region=nac
footprint JW2SNDC24V
pins: 1 COIL_1, 2 N.C._1, 3 COM_1, 4 N.O._1, 5 N.O._2, 6 COM_2, 7 N.C._2, 8 COIL_2

## KAF31ER71H474KL
designator C?
Capacitor; Manufacturer_Name: Kyocera AVX; Manufacturer_Part_Number: KAF31ER71H474KL; Datasheet Link: https://datasheets.kyocera-avx.com/AutoMLCCKAF.pdf; Height: 1.52mm; Mouser Part Number: 581-KAF31ER71H474KL; Mouser Price/Stock: https://www.mouser.co.uk/ProductDetail/KYOCERA-AVX/KAF31ER71H474KL?qs=Jm2GQyTW%2FbjNZ75fHRRUJA%3D%3D; Arrow Part Number: KAF31ER71H474KL; Arrow Price/Stock: https://www.arrow.com/en/products/kaf31er71h474kl/avx?region=nac
footprint CAPC3216X152N
pins: 1, 2

## KAM31GR71H475KL
designator C?
Capacitor; Manufacturer_Name: Kyocera AVX; Manufacturer_Part_Number: KAM31GR71H475KL; Datasheet Link: https://www.mouser.jp/datasheet/2/40/AutoMLCCKAM-3216307.pdf; Height: 0.75mm; Mouser Part Number: 581-KAM31GR71H475KL; Mouser Price/Stock: https://www.mouser.co.uk/ProductDetail/KYOCERA-AVX/KAM31GR71H475KL?qs=Jm2GQyTW%2FbjSbY1tCxiE1g%3D%3D
footprint CAPC3216X75N
pins: 1, 2

## KGF21BR71H104KT
designator C?
Capacitor; Manufacturer_Name: Kyocera AVX; Manufacturer_Part_Number: KGF21BR71H104KT; Datasheet Link: https://www.mouser.fr/datasheet/2/40/KGF-3223650.pdf; Height: 1.47mm; Mouser Part Number: 581-KGF21BR71H104KT; Mouser Price/Stock: https://www.mouser.co.uk/ProductDetail/KYOCERA-AVX/KGF21BR71H104KT?qs=Jm2GQyTW%2FbjYyKCvVWAEOw%3D%3D; Arrow Part Number: KGF21BR71H104KT; Arrow Price/Stock: https://www.arrow.com/en/products/kgf21br71h104kt/avx?utm_currency=USD&region=nac
footprint CAPC2012X147N (Footprint not found)
pins: 1, 2

## KGF31GR72A105KU
designator C?
Capacitor; Manufacturer_Name: Kyocera AVX; Manufacturer_Part_Number: KGF31GR72A105KU; Datasheet Link: https://spicat.kyocera-avx.com/datasheet/KGF31GR72A105KU; Height: 1.78mm; Mouser Part Number: 581-KGF31GR72A105KU; Mouser Price/Stock: https://www.mouser.co.uk/ProductDetail/KYOCERA-AVX/KGF31GR72A105KU?qs=Jm2GQyTW%2Fbi7xkmery9bvA%3D%3D; Arrow Part Number: KGF31GR72A105KU; Arrow Price/Stock: https://www.arrow.com/en/products/kgf31gr72a105ku/avx?utm_currency=USD&region=nac
footprint CAPC3216X178N
pins: 1, 2

## KGM21AV51H105ZU
designator C?
Capacitor; Manufacturer_Name: Kyocera AVX; Manufacturer_Part_Number: KGM21AV51H105ZU; Datasheet Link: https://www.mouser.com/datasheet/2/40/KGM_Y5V-3223189.pdf; Height: 1.45mm
footprint CAPC2012X145N
pins: 1, 2

## KT12-1A-40L-SMD
designator K?
Relay or Contactor; Manufacturer_Name: STANDEXMEDER; Manufacturer_Part_Number: KT12-1A-40L-SMD; Datasheet Link: https://standexelectronics.com/resources/technical-library/technical-papers/datasheet-kt-series-reed-relay/; Height: 8.7mm; Mouser Part Number: 876-KT12-1A-40L-SMD; Arrow Part Number: KT12-1A-40L-SMD; Arrow Price/Stock: https://www.arrow.com/en/products/kt12-1a-40l-smd/standex-meder-electronics
footprint KT121A40LSMD
pins: 1 COM, 2 NO, 3 COIL_1, 4 COIL_2

## KT24-1A-40L-SMD
designator K?
Relay or Contactor; Manufacturer_Name: Meder; Manufacturer_Part_Number: KT24-1A-40L-SMD; Datasheet Link: https://www.mouser.de/datasheet/2/262/9024185401e-1633625.pdf; Height: 8.7mm; Mouser Part Number: 876-KT24-1A-40L-SMD; Mouser Price/Stock: https://www.mouser.co.uk/ProductDetail/MEDER-electronic-Standex/KT24-1A-40L-SMD?qs=mUCnLpxNPte72XvEBELL9g%3D%3D
footprint KT241A40LSMD
pins: 1 COM, 2 NO, 3 COIL_1, 4 COIL_2

## KTR18EZPJ511
designator R?
Resistor; Manufacturer_Name: ROHM Semiconductor; Manufacturer_Part_Number: KTR18EZPJ511; Datasheet Link: http://rohmfs.rohm.com/en/products/databook/datasheet/passive/resistor/chip_resistor/ktr.pdf; Height: 0.65mm; Mouser Part Number: 755-KTR18EZPJ511; Mouser Price/Stock: https://www.mouser.co.uk/ProductDetail/ROHM-Semiconductor/KTR18EZPJ511?qs=DyUWGjl%252BcVvm7MQRIM2yRQ%3D%3D
footprint RESC3216X65N
footprint Model Name (Model Description)
pins: 1, 2

## L99VR035PTR
designator IC?
Integrated Circuit; Manufacturer_Name: STMicroelectronics; Manufacturer_Part_Number: L99VR035PTR; Datasheet Link: https://www.st.com/resource/en/datasheet/l99vr03.pdf; Height: 1.7mm
footprint SOP80P600X170-13N
pins: 1 VS, 2 DNC_1, 3 VO, 4 GND, 5 DNC_2, 6 DNC_3, 7 DNC_4, 8 DNC_5, 9 DNC_6, 10 DNC_7, 11 DNC_8, 12 EN, 13 EP

## LM7805CT
designator IC?
Integrated Circuit; Manufacturer_Name: Texas Instruments; Manufacturer_Part_Number: LM7805CT; Datasheet Link: http://www.ti.com/lit/ds/symlink/lm340.pdf; Height: 4.7mm; Mouser Part Number: 926-LM7805CT; Mouser Price/Stock: https://www.mouser.co.uk/ProductDetail/Texas-Instruments/LM7805CT?qs=QbsRYf82W3EaqXeMDVwIfQ%3D%3D; Arrow Part Number: LM7805CT; Arrow Price/Stock: https://www.arrow.com/en/products/lm7805ct/texas-instruments?region=europe
footprint TO254P470X1028X1955-3P
pins: 1 INPUT, 2 GROUND, 3 OUTPUT

## LMK107BJ475KA-T
designator C?
Capacitor; Manufacturer_Name: TAIYO YUDEN; Manufacturer_Part_Number: LMK107BJ475KA-T; Datasheet Link: https://mouser.componentsearchengine.com/Datasheets/1/LMK107BJ475KA-T.pdf; Height: 0.9mm; Mouser Part Number: 963-LMK107BJ475KA-T; Mouser Price/Stock: https://www.mouser.co.uk/ProductDetail/TAIYO-YUDEN/LMK107BJ475KA-T?qs=PzICbMaShUfCoRlxZeLF0g%3D%3D; Arrow Part Number: LMK107BJ475KA-T; Arrow Price/Stock: https://www.arrow.com/en/products/lmk107bj475ka-t/taiyo-yuden?utm_currency=USD&region=nac
footprint CAPC1608X90N
pins: 1, 2

## LTC4151IMS#PBF
designator IC?
Integrated Circuit; Manufacturer_Name: Analog Devices; Manufacturer_Part_Number: LTC4151IMS#PBF; Datasheet Link: http://www.linear.com/docs/26089; Height: 1.1mm; Mouser Part Number: 584-LTC4151IMS#PBF; Mouser Price/Stock: https://www.mouser.co.uk/ProductDetail/Analog-Devices/LTC4151IMSPBF?qs=hVkxg5c3xu%2F2n6Fpk%2FlWrA%3D%3D; Arrow Part Number: LTC4151IMS#PBF; Arrow Price/Stock: https://www.arrow.com/en/products/ltc4151imspbf/analog-devices?region=europe
footprint SOP50P490X110-10N
pins: 1 SENSE+, 2 VIN, 3 ADR1, 4 ADR0, 5 ADIN, 6 SCL, 7 SDA, 8 ~{SHDN}, 9 GND, 10 SENSE-

## LTC4151IMS-1#PBF
designator IC?
Integrated Circuit; Manufacturer_Name: Analog Devices; Manufacturer_Part_Number: LTC4151IMS-1#PBF; Datasheet Link: https://www.analog.com/media/en/technical-documentation/data-sheets/4151ff.pdf; Height: 1.1mm; Mouser Part Number: 584-LTC4151IMS-1#PBF; Mouser Price/Stock: https://www.mouser.co.uk/ProductDetail/Analog-Devices/LTC4151IMS-1PBF?qs=hVkxg5c3xu8GkocOuUpsIw%3D%3D; Arrow Part Number: LTC4151IMS-1#PBF; Arrow Price/Stock: https://www.arrow.com/en/products/ltc4151ims-1pbf/linear-technology
footprint SOP50P490X110-10N
pins: 1 SENSE+, 2 VIN, 3 ADR1, 4 ADR0, 5 ADIN, 6 SCL, 7 SDAI, 8 ~{SDAO}, 9 GND, 10 SENSE-

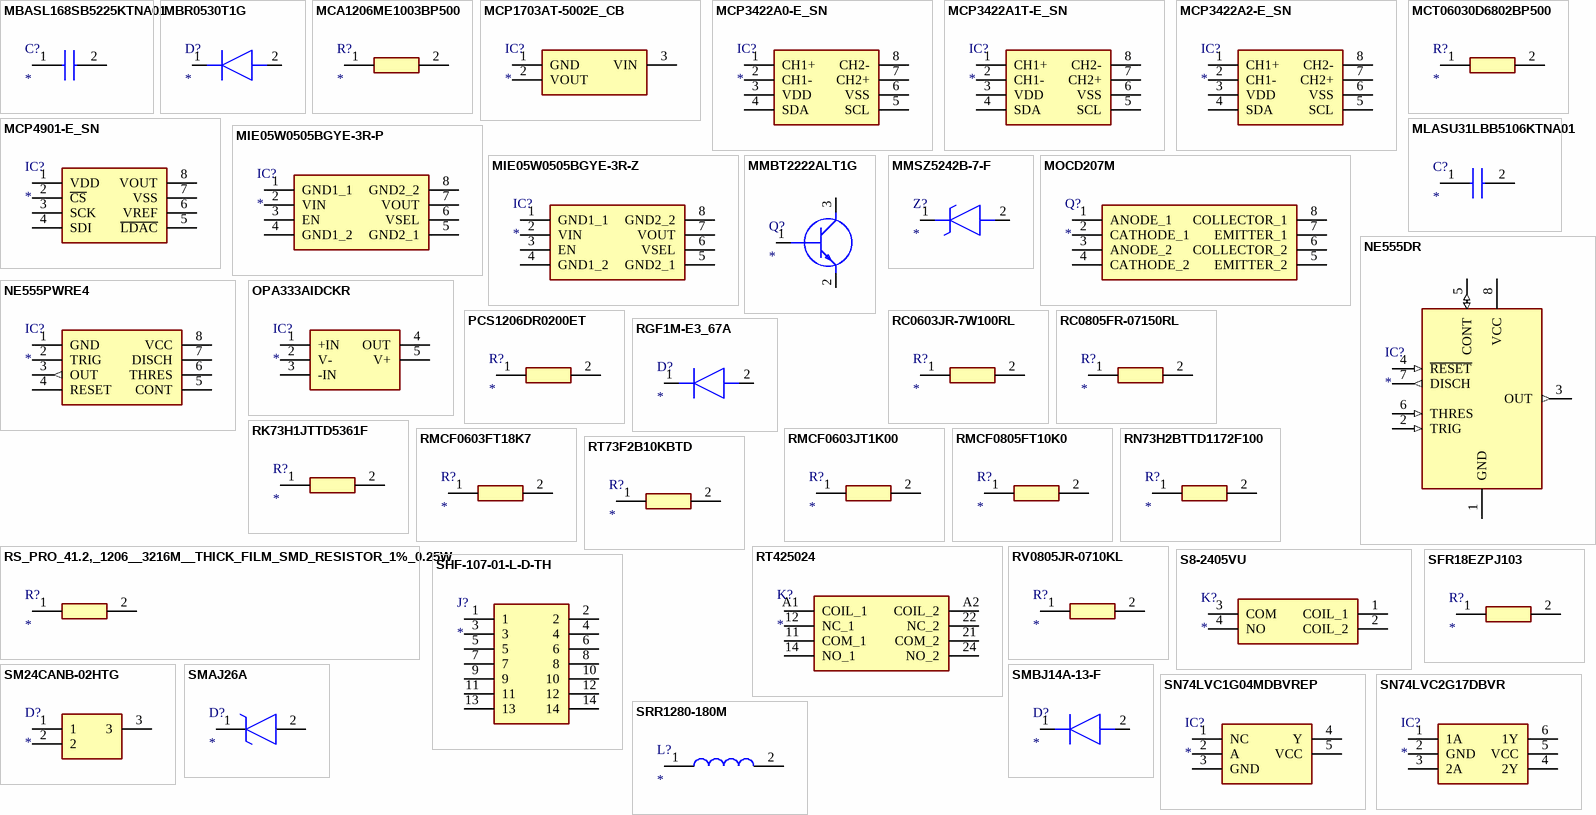
[diagram p4: symbols MBASL168SB5225KTNA01 to SRR1280-180M]

## MBASL168SB5225KTNA01
designator C?
Capacitor; Manufacturer_Name: TAIYO YUDEN; Manufacturer_Part_Number: MBASL168SB5225KTNA01; Datasheet Link: https://ds.yuden.co.jp/TYCOMPAS/or/detail?pn=MBASL168SB5225KTNA01; Height: 0.8mm
footprint MBASx168
pins: 1, 2

## MBR0530T1G
designator D?
Diode; Manufacturer_Name: onsemi; Manufacturer_Part_Number: MBR0530T1G; Datasheet Link: https://www.onsemi.com/pub/Collateral/MBR0530T1-D.PDF; Height: 1.35mm; Mouser Part Number: 863-MBR0530T1G; Mouser Price/Stock: https://www.mouser.co.uk/ProductDetail/onsemi/MBR0530T1G?qs=3JMERSakeboS%2FFOxJUMWeg%3D%3D; Arrow Part Number: MBR0530T1G; Arrow Price/Stock: https://www.arrow.com/en/products/mbr0530t1g/on-semiconductor?utm_currency=USD&region=europe
footprint SOD3716X135N
pins: 1 K, 2 A

## MCA1206ME1003BP500
designator R?
Resistor; Manufacturer_Name: Vishay; Manufacturer_Part_Number: MCA1206ME1003BP500; Datasheet Link: https://www.vishay.com/docs/28700/mcx0x0xpre.pdf; Height: 0.65mm
footprint RESC3216X65N
pins: 1, 2

## MCP1703AT-5002E_CB
designator IC?
Integrated Circuit; Manufacturer_Name: Microchip; Manufacturer_Part_Number: MCP1703AT-5002E/CB; Datasheet Link: http://uk.rs-online.com/web/p/products/7709511; Height: 1.45mm; Mouser Part Number: 579-MCP1703AT5002ECB; Mouser Price/Stock: https://www.mouser.co.uk/ProductDetail/Microchip-Technology/MCP1703AT-5002E-CB?qs=PZkJWYMe7lfGlNu7PCEqfg%3D%3D; Arrow Part Number: MCP1703AT-5002E/CB; Arrow Price/Stock: https://www.arrow.com/en/products/mcp1703at-5002ecb/microchip-technology?utm_currency=USD&region=nac
footprint SOT95P255X145-3N
pins: 1 GND, 2 VOUT, 3 VIN

## MCP3422A0-E_SN
designator IC?
Integrated Circuit; Manufacturer_Name: Microchip; Manufacturer_Part_Number: MCP3422A0-E/SN; Datasheet Link: http://ww1.microchip.com/downloads/en/DeviceDoc/22088c.pdf; Height: 1.75mm; Mouser Part Number: 579-MCP3422A0-E/SN; Mouser Price/Stock: https://www.mouser.co.uk/ProductDetail/Microchip-Technology/MCP3422A0-E-SN?qs=87%2Fgv35YuOfbAfmw%2FNkP0g%3D%3D; Arrow Part Number: MCP3422A0-E/SN; Arrow Price/Stock: https://www.arrow.com/en/products/mcp3422a0-esn/microchip-technology?region=europe
footprint SOIC127P600X175-8N
pins: 1 CH1+, 2 CH1-, 3 VDD, 4 SDA, 5 SCL, 6 VSS, 7 CH2+, 8 CH2-

## MCP3422A1T-E_SN
designator IC?
Integrated Circuit; Manufacturer_Name: Microchip; Manufacturer_Part_Number: MCP3422A1T-E/SN; Datasheet Link: https://ww1.microchip.com/downloads/en/DeviceDoc/22088c.pdf; Height: 1.75mm; Mouser Part Number: 579-MCP3422A1T-E/SN; Mouser Price/Stock: https://www.mouser.co.uk/ProductDetail/Microchip-Technology/MCP3422A1T-E-SN?qs=X98pPdo4MrvBbe3HwfJ%252Bfw%3D%3D; Arrow Part Number: MCP3422A1T-E/SN; Arrow Price/Stock: https://www.arrow.com/en/products/mcp3422a1t-esn/microchip-technology
footprint SOIC127P600X175-8N
pins: 1 CH1+, 2 CH1-, 3 VDD, 4 SDA, 5 SCL, 6 VSS, 7 CH2+, 8 CH2-

## MCP3422A2-E_SN
designator IC?
Integrated Circuit; Manufacturer_Name: Microchip; Manufacturer_Part_Number: MCP3422A2-E/SN; Datasheet Link: https://componentsearchengine.com/Datasheets/1/MCP3422A2-E_SN.pdf; Height: 1.75mm; Mouser Part Number: 579-MCP3422A2-E/SN; Mouser Price/Stock: https://www.mouser.co.uk/ProductDetail/Microchip-Technology/MCP3422A2-E-SN?qs=OCR3PNzn1cdOCy6oFlKs9w%3D%3D; Arrow Part Number: MCP3422A2-E/SN; Arrow Price/Stock: https://www.arrow.com/en/products/mcp3422a2-esn/microchip-technology
footprint SOIC127P600X175-8N
pins: 1 CH1+, 2 CH1-, 3 VDD, 4 SDA, 5 SCL, 6 VSS, 7 CH2+, 8 CH2-

## MCP4901-E_SN
designator IC?
Integrated Circuit; Manufacturer_Name: Microchip; Manufacturer_Part_Number: MCP4901-E/SN; Datasheet Link: https://www.arrow.com/en/products/mcp4901-esn/microchip-technology; Height: 1.75mm; Mouser Part Number: 579-MCP4901-E/SN; Mouser Price/Stock: https://www.mouser.co.uk/ProductDetail/Microchip-Technology/MCP4901-E-SN?qs=bxUt0k7cytKvvz9YnjHjeA%3D%3D; Arrow Part Number: MCP4901-E/SN; Arrow Price/Stock: https://www.arrow.com/en/products/mcp4901-esn/microchip-technology?region=nac
footprint SOIC127P600X175-8N
pins: 1 VDD, 2 ~{CS}, 3 SCK, 4 SDI, 5 ~{LDAC}, 6 VREF, 7 VSS, 8 VOUT

## MCT06030D6802BP500
designator R?
Resistor; Manufacturer_Name: Vishay; Manufacturer_Part_Number: MCT06030D6802BP500; Datasheet Link: http://www.vishay.com/docs/28705/mcx0x0xpro.pdf; Height: 0.55mm
footprint RESC1608X55N
pins: 1, 2

## MIE05W0505BGYE-3R-P
designator IC?
Integrated Circuit; Manufacturer_Name: Monolithic Power Systems (MPS); Manufacturer_Part_Number: MIE05W0505BGYE-3R-P; Datasheet Link: https://www.monolithicpower.com/en/documentview/productdocument/index/version/2/document_type/Datasheet/lang/en/sku/MIE05W0505BGYE/document_id/11798/; Height: 2.65mm
footprint SOIC127P1030X265-8N
pins: 1 GND1_1, 2 VIN, 3 EN, 4 GND1_2, 5 GND2_1, 6 VSEL, 7 VOUT, 8 GND2_2

## MIE05W0505BGYE-3R-Z
designator IC?
Integrated Circuit; Manufacturer_Name: Monolithic Power Systems (MPS); Manufacturer_Part_Number: MIE05W0505BGYE-3R-Z; Datasheet Link: https://www.monolithicpower.com/en/documentview/productdocument/index/version/2/document_type/Datasheet/lang/en/sku/MIE05W0505BGYE/document_id/11798/; Height: 2.65mm
footprint SOIC127P1030X265-8N
pins: 1 GND1_1, 2 VIN, 3 EN, 4 GND1_2, 5 GND2_1, 6 VSEL, 7 VOUT, 8 GND2_2

## MLASU31LBB5106KTNA01
designator C?
Capacitor; Manufacturer_Name: TAIYO YUDEN; Manufacturer_Part_Number: MLASU31LBB5106KTNA01; Datasheet Link: https://mm.digikey.com/Volume0/opasdata/d220001/medias/docus/5731/MLR01_e.pdf; Height: 1.8mm
footprint CAPC3216X180N
pins: 1, 2

## MMBT2222ALT1G
designator Q?
Transistor BJT NPN; Manufacturer_Name: onsemi; Manufacturer_Part_Number: MMBT2222ALT1G; Datasheet Link: https://www.onsemi.com/pub/Collateral/MMBT2222LT1-D.PDF; Height: 1.11mm; Mouser Part Number: 863-MMBT2222ALT1G; Mouser Price/Stock: https://www.mouser.co.uk/ProductDetail/onsemi/MMBT2222ALT1G?qs=HVbQlW5zcXWwnD7Jokybqg%3D%3D; Arrow Part Number: MMBT2222ALT1G; Arrow Price/Stock: https://www.arrow.com/en/products/mmbt2222alt1g/on-semiconductor?utm_currency=USD&region=europe
footprint SOT96P237X111-3N
pins: 1 B, 2 E, 3 C

## MMSZ5242B-7-F
designator Z?
Zener Diode; Manufacturer_Name: Diodes Incorporated; Manufacturer_Part_Number: MMSZ5242B-7-F; Datasheet Link: https://www.diodes.com//assets/Datasheets/ds18010.pdf; Height: 1.45mm; Mouser Part Number: 621-MMSZ5242B-F; Mouser Price/Stock: https://www.mouser.co.uk/ProductDetail/Diodes-Incorporated/MMSZ5242B-7-F?qs=q1%252B6u8LlB5fEENM1dXHh%252Bg%3D%3D; Arrow Part Number: MMSZ5242B-7-F; Arrow Price/Stock: https://www.arrow.com/en/products/mmsz5242b-7-f/diodes-incorporated?utm_currency=USD&region=nac
footprint SOD3716X145N
pins: 1 K, 2 A

## MOCD207M
designator Q?
Transistor; Manufacturer_Name: onsemi; Manufacturer_Part_Number: MOCD207M; Datasheet Link: https://www.onsemi.com/pub/Collateral/MOCD217M-D.PDF; Height: 3.63mm; Mouser Part Number: 512-MOCD207M; Mouser Price/Stock: https://www.mouser.co.uk/ProductDetail/onsemi-Fairchild/MOCD207M?qs=Z0HAwyWrFkxA8A7IbmLQiA%3D%3D; Arrow Part Number: MOCD207M; Arrow Price/Stock: https://www.arrow.com/en/products/mocd207m/on-semiconductor?region=europe
footprint SOIC127P594X363-8N
pins: 1 ANODE_1, 2 CATHODE_1, 3 ANODE_2, 4 CATHODE_2, 5 EMITTER_2, 6 COLLECTOR_2, 7 EMITTER_1, 8 COLLECTOR_1

## NE555DR
designator IC?
Integrated Circuit; Manufacturer_Name: Texas Instruments; Manufacturer_Part_Number: NE555DR; Datasheet Link: http://www.ti.com/lit/ds/symlink/ne555.pdf; Height: 1.75mm; Mouser Part Number: 595-NE555DR; Mouser Price/Stock: https://www.mouser.com/Search/Refine.aspx?Keyword=595-NE555DR; RS Part Number: 1218414; RS Price/Stock: http://uk.rs-online.com/web/p/products/1218414
footprint SOIC127P600X175-8N
pins: 1 GND (power), 2 TRIG (in), 3 OUT (out), 4 ~{RESET} (in), 5 CONT (io), 6 THRES (in), 7 DISCH (out), 8 VCC (power)